# EAGLE library part LIS331 (library MD-Sensors)
3-axis 6/12/24g SPI/I2C accelerometer
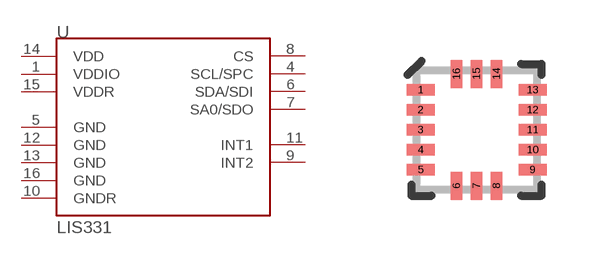
[diagram p34: symbol with the pads of LGA16-3MM; footprint LGA16-3MM]

Designator prefix U

## LIS331  [LGA16-3MM]
1  VDDIO
4  SCL/SPC
5  GND
6  SDA/SDI
7  SA0/SDO
8  CS
9  INT2
10  GNDR
11  INT1
12  GND
13  GND
14  VDD
15  VDDR
16  GND

## Footprint LGA16-3MM (pad centres in mm)
LGA16 (3x3x1mm)
smd 0.7 x 0.28: 1 -1.4,1; 2 -1.4,0.5; 3 -1.4,0; 4 -1.4,-0.5; 5 -1.4,-1; 9 1.4,-1; 10 1.4,-0.5; 11 1.4,0; 12 1.4,0.5; 13 1.4,1
smd 0.28 x 0.7: 6 -0.5,-1.4; 7 0,-1.4; 8 0.5,-1.4; 14 0.5,1.4; 15 0,1.4; 16 -0.5,1.4